# Altium schematic symbol library Schlib1.SchLib: 4 symbols
Pins are listed as number, name and electrical type; pins without a type are passive.

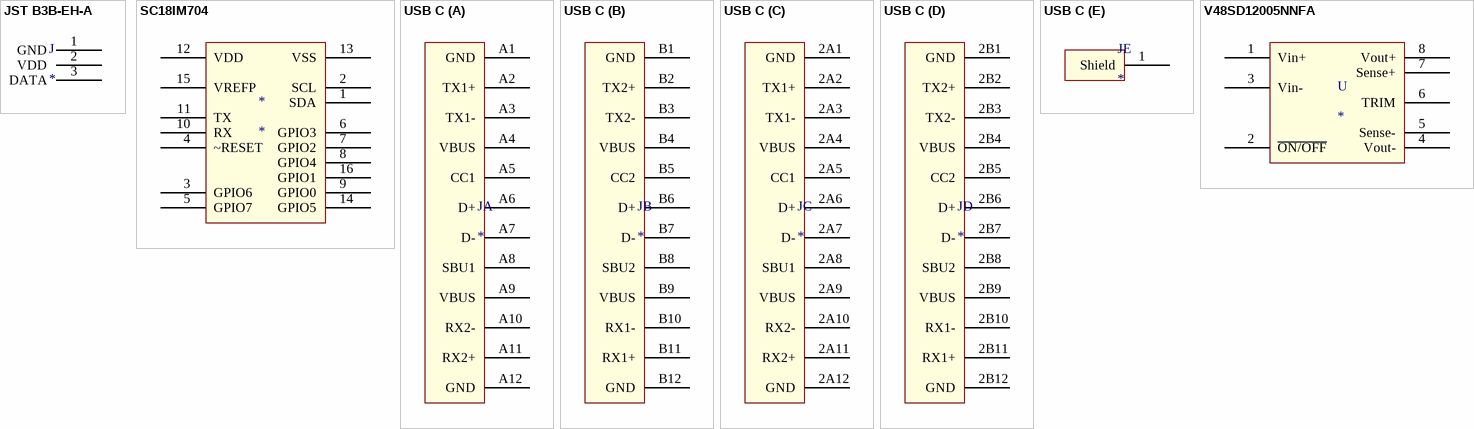
[diagram p0: symbols JST B3B-EH-A to V48SD12005NNFA]

## JST B3B-EH-A
designator J
footprint JST B3B-EH-A
pins: 1 GND, 2 VDD, 3 DATA

## SC18IM704
designator *
footprint TSSOP-16
pins: 1 SDA, 2 SCL, 3 GPIO6, 4 ~RESET, 5 GPIO7, 6 GPIO3, 7 GPIO2, 8 GPIO4, 9 GPIO0, 10 RX, 11 TX, 12 VDD, 13 VSS, 14 GPIO5, 15 VREFP, 16 GPIO1

## USB C
designator J
footprint Dual USB C Connector (USB-C31-D-RA-CS2)
part A pins: A1 GND, A2 TX1+, A3 TX1-, A4 VBUS, A5 CC1, A6 D+, A7 D-, A8 SBU1, A9 VBUS, A10 RX2-, A11 RX2+, A12 GND
part B pins: B1 GND, B2 TX2+, B3 TX2-, B4 VBUS, B5 CC2, B6 D+, B7 D-, B8 SBU2, B9 VBUS, B10 RX1-, B11 RX1+, B12 GND
part C pins: 2A1 GND, 2A2 TX1+, 2A3 TX1-, 2A4 VBUS, 2A5 CC1, 2A6 D+, 2A7 D-, 2A8 SBU1, 2A9 VBUS, 2A10 RX2-, 2A11 RX2+, 2A12 GND
part D pins: 2B1 GND, 2B2 TX2+, 2B3 TX2-, 2B4 VBUS, 2B5 CC2, 2B6 D+, 2B7 D-, 2B8 SBU2, 2B9 VBUS, 2B10 RX1-, 2B11 RX1+, 2B12 GND
part E pins: 1 Shield

## V48SD12005NNFA
designator U
footprint 1/16 Brick
pins: 1 Vin+, 2 ~{ON/OFF}, 3 Vin-, 4 Vout-, 5 Sense-, 6 TRIM, 7 Sense+, 8 Vout+